# Altium footprint library RD901F4015R1B100K00DL1.PcbLib: 1 footprints
Each footprint in its own frame and in the unit in brackets; x right, y up, seen from the top. Pads: shape width x height; smd on the part's side, far side on the other; paste and mask are expansions set on the pad; w line width, h text height; cw(c..) or ccw(c..) is an arc to the next point about the centre after c.
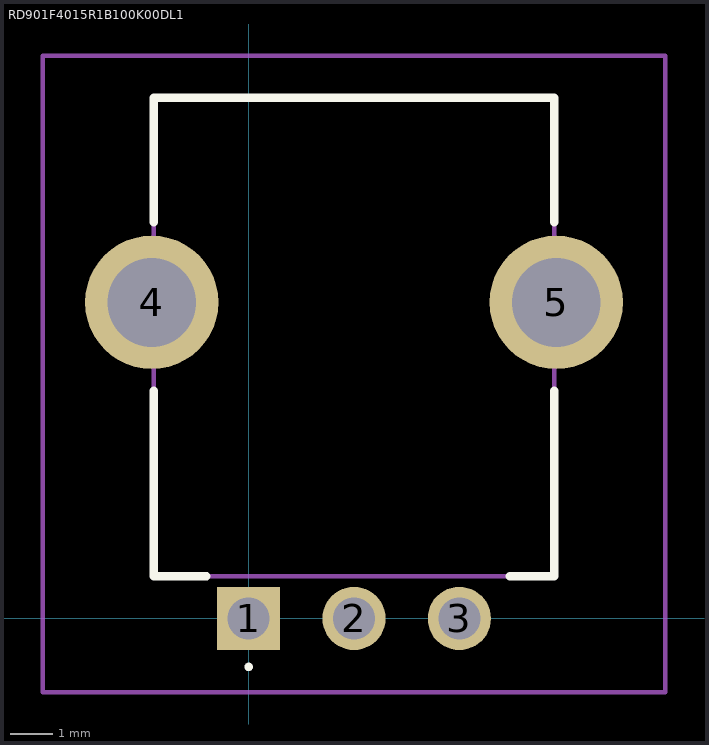
[diagram p0: the footprint, top view; thin cyan lines are the x and y axes]

## RD901F4015R1B100K00DL1 [mm]
pads (5):
  rect 1.5x1.5 hole 1: 1(0,0)
  round 1.5 hole 1: 2(2.5,0) 3(5,0)
  round 3.165 hole 2.11: 4(-2.3,7.5) 5(7.3,7.5)
Top Overlay:
  lines w0.1: 0,-1.2 ccw(c0,-1.15) 0,-1.1 ccw(c0,-1.15) 0,-1.2
  lines w0.2: -2.25,5.4 -2.25,1 -1,1 ; -2.25,9.4 -2.25,12.35 7.25,12.35 7.25,9.4 ; 6.2,1 7.25,1 7.25,5.4
Mechanical 15:
  lines w0.1: -2.25,1 7.25,1 7.25,12.35 -2.25,12.35 -2.25,1
Mechanical 20:
  lines w0.1: -4.883,-1.75 9.883,-1.75 9.883,13.35 -4.883,13.35 -4.883,-1.75
3D body "ALPHA-RD901F-40.step": height 30.11, standoff -3.53, extent -2.921,-0.206 7.632,12.144